# Altium integrated library 电阻.IntLib: 10 symbols
Pins are listed as number, name and electrical type; pins without a type are passive.

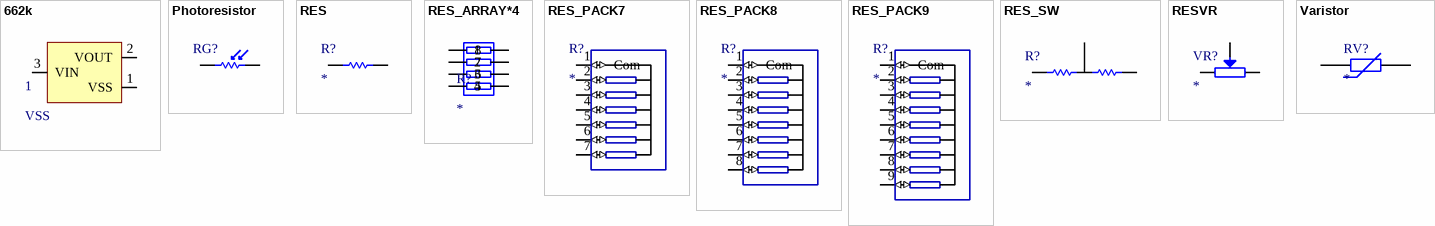
[diagram p0: symbols 662k to Varistor]

## 662k
designator 1, comment VSS
footprint SOT23-3
pins: 1 VSS, 2 VOUT, 3 VIN

## Photoresistor
designator RG?
光敏电阻
footprint Photoresistor
pins: 1, 2

## RES
designator R?
footprint 0201R
footprint 0402R
footprint 0603R
footprint 0805R
footprint 1206R
footprint 1812R
footprint 2010R
footprint 2512R
footprint AXIAL0.3
footprint AXIAL0.4 (1/4W/1/2W)
footprint AXIAL0.5 (1/2W/1W)
footprint AXIAL0.6 (Variable Resistor; 2 Leads)
footprint AXIAL0.7 (Variable Resistor; 2 Leads)
footprint AXIAL0.9 (Magnetic-Core Inductor; 2 Leads)
footprint AXIAL0.8 (Adjustable Inductor; 2 Leads)
footprint AXIAL1.0 (Adjustable Magnetic-Core Inductor; 2 Leads)
footprint LONG
pins: 1, 2

## RES_ARRAY*4
designator R?
网络排阻4R
footprint 0603Rx4
footprint RES-ARRAY-SMD_0603-8P-L3.2-W1.6-BL
pins: 1, 2, 3, 4, 5, 6, 7, 8

## RES_PACK7
designator R?
footprint A07R
pins: 1 Com (io), 2 (io), 3 (io), 4 (io), 5 (io), 6 (io), 7 (io)

## RES_PACK8
designator R?
footprint A08R
pins: 1 Com (io), 2 (io), 3 (io), 4 (io), 5 (io), 6 (io), 7 (io), 8 (io)

## RES_PACK9
designator R?
footprint A09R
pins: 1 Com (io), 2 (io), 3 (io), 4 (io), 5 (io), 6 (io), 7 (io), 8 (io), 9 (io)

## RES_SW
designator R?
footprint SW_0603R
pins: 1, 2, 3

## RESVR
designator VR?
footprint 3296W
footprint 3362P
footprint 3362S
footprint 微调卧式蓝白电位器
pins: 1, 2, 3

## Varistor
designator RV?
压敏电阻
footprint Varistor-7.5mm
pins: 1, 2